# Altium integrated library VS-1213-67-160GF.IntLib: 1 symbol
Pins are listed as number, name and electrical type; pins without a type are passive.

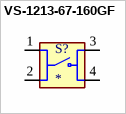
[diagram p0: symbol VS-1213-67-160GF]

## VS-1213-67-160GF
designator S?
Flat Type PCB Mount 12 x 12mm Tact Switches; MP: VS-1213-67-160GF; Value: *; Availability: Unavailable; Package: None; Price: None
footprint SW_VS-1213-67-160GF
pins: 1, 2, 3, 4